# Altium integrated library Analog Devices Data Converters Analog-to-Digital Converters.IntLib: 2400 symbols (part 320 of 338)
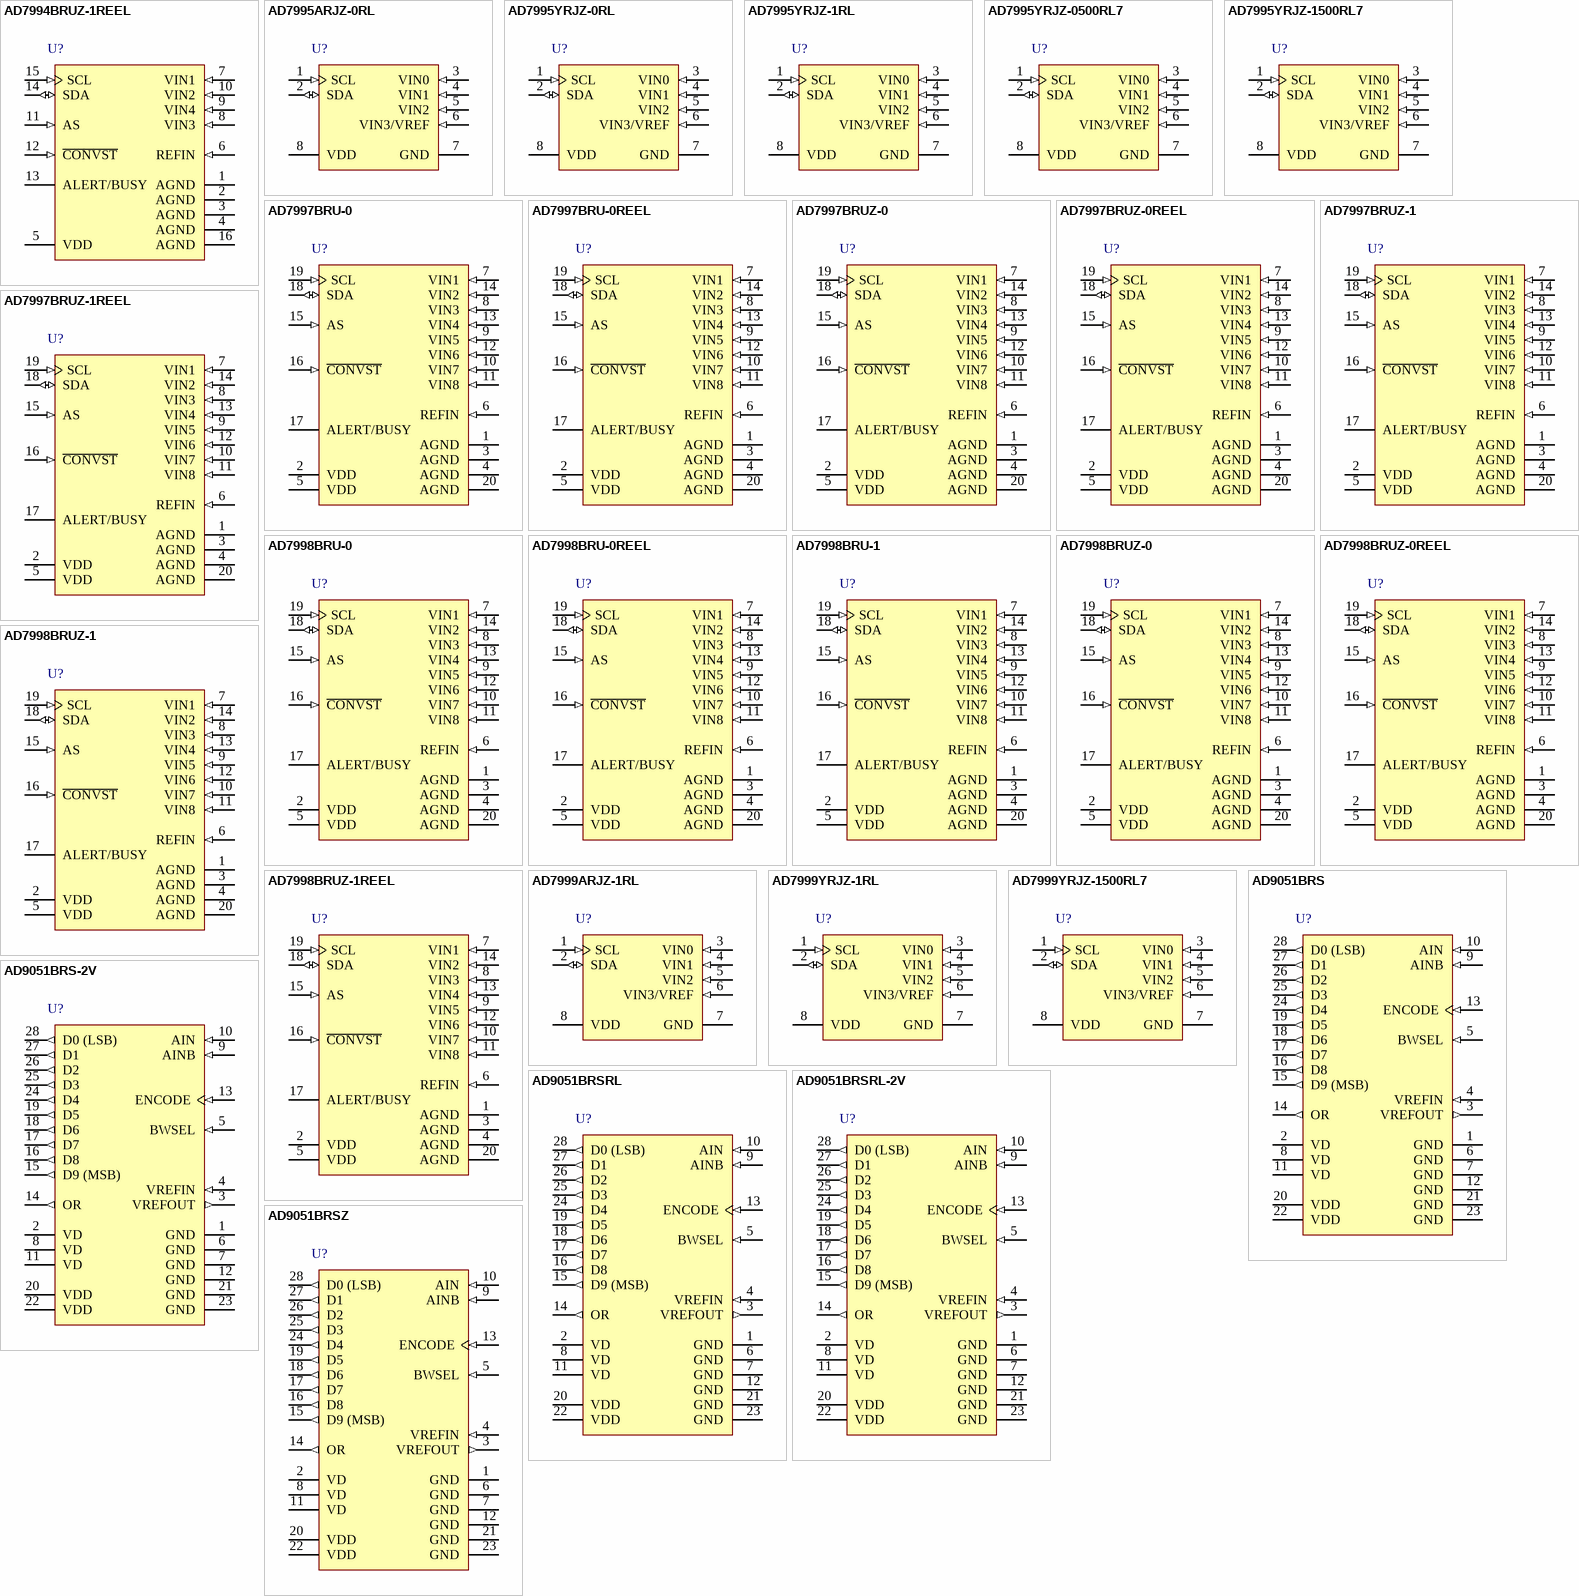
[diagram p429: symbols AD7994BRUZ-1REEL to AD9051BRSZ]

## AD9051BRSRL-2V
designator U?
Single 10-Bit Analog-to-Digital Converter with Parallel Interface, 60MSPS, -40 to +85 degC, RS-28, Reel; Part Number: AD9051; Manufacturer: Analog Devices; Resolution (Bits): 10; Channels: 1; Throughput Rate (SPS): 60M; Interface: Par; DatasheetVersion: Rev.C; PackageVersion: 060106-A; PackageReference: RS-28; PackageDescription: 28-Lead Shrink Small Outline Package [SSOP]; RoHS: N; Packing: Reel; Mounting Technology: Surface Mount; Code_JEDEC: MO-150-AH; ComponentLink1Description: Manufacturer URL; ComponentLink1URL: http://www.analog.com/en/index.html; ComponentLink2Description: Datasheet; ComponentLink2URL: http://www.analog.com/static/imported-files/data_sheets/AD9051.pdf; ComponentLink3Description: Package Specification; ComponentLink3URL: http://www.analog.com/static/imported-files/packages/32122249223724RS_28.pdf; ComponentLink4Description: Product URL; ComponentLink4URL: http://www.analog.com/en/analog-to-digital-converters/ad-converters/ad9051/products/product.html
footprint RS-28_N (SOP, 28-Leads, Body 10.2x5.3mm, Pitch 0.65mm, IPC Medium Density)
footprint RS-28_L (SOP, 28-Leads, Body 10.2x5.3mm, Pitch 0.65mm, IPC High Density)
footprint RS-28_M (SOP, 28-Leads, Body 10.2x5.3mm, Pitch 0.65mm, IPC Low Density)
pins: 1 GND (power) "Ground", 2 VD (power) "Analog 5 V Power Supply", 3 VREFOUT (out) "Internal Bandgap Voltage Reference (Nominally 2.5 V)", 4 VREFIN (in) "Input to Reference Amplifier. Voltage reference for ADC is connected here.", 5 BWSEL (in) "Bandwidth Select. NC = 130 MHz nominal. +VD = 50 MHz nominal.", 6 GND (power) "Ground", 7 GND (power) "Ground", 8 VD (power) "Analog 5 V Power Supply", 9 AINB (in) "Complementary Analog Input Pin (Analog Input Bar)", 10 AIN (in) "Analog Input Pin", 11 VD (power) "Analog 5 V Power Supply", 12 GND (power) "Ground", 13 ENCODE (in) "Encode Clock Input to ADC. Internal T/H is placed in hold mode (ADC is encoding) on rising edge of encode signal.", 14 OR (out) "Out of Range Signal. Logic 0 when analog input is in nominal range. Logic 1 when analog input is out of nominal range", 15 D9 (MSB) (out) "Most Significant Bit of ADC Output", 16 D8 (out) "Digital Output Bits of ADC", 17 D7 (out) "Digital Output Bits of ADC", 18 D6 (out) "Digital Output Bits of ADC", 19 D5 (out) "Digital Output Bits of ADC", 20 VDD (power) "Digital Output Power Supply (Only Used by Digital Outputs)", 21 GND (power) "Ground", 22 VDD (power) "Digital Output Power Supply (Only Used by Digital Outputs)", 23 GND (power) "Ground", 24 D4 (out) "Digital Output Bits of ADC", 25 D3 (out) "Digital Output Bits of ADC", 26 D2 (out) "Digital Output Bits of ADC", 27 D1 (out) "Digital Output Bits of ADC", 28 D0 (LSB) (out) "Least Significant Bit of ADC Output"

## AD9051BRSZ
designator U?
Single 10-Bit Analog-to-Digital Converter with Parallel Interface, 60MSPS, -40 to +85 degC, RS-28, Pb-Free, Tube; Part Number: AD9051; Manufacturer: Analog Devices; Resolution (Bits): 10; Channels: 1; Throughput Rate (SPS): 60M; Interface: Par; DatasheetVersion: Rev.C; PackageVersion: 060106-A; PackageReference: RS-28; PackageDescription: 28-Lead Shrink Small Outline Package [SSOP]; RoHS: Y; Packing: Tube; Mounting Technology: Surface Mount; Code_JEDEC: MO-150-AH; ComponentLink1Description: Manufacturer URL; ComponentLink1URL: http://www.analog.com/en/index.html; ComponentLink2Description: Datasheet; ComponentLink2URL: http://www.analog.com/static/imported-files/data_sheets/AD9051.pdf; ComponentLink3Description: Package Specification; ComponentLink3URL: http://www.analog.com/static/imported-files/packages/32122249223724RS_28.pdf; ComponentLink4Description: Product URL; ComponentLink4URL: http://www.analog.com/en/analog-to-digital-converters/ad-converters/ad9051/products/product.html
footprint RS-28_N (SOP, 28-Leads, Body 10.2x5.3mm, Pitch 0.65mm, IPC Medium Density)
footprint RS-28_L (SOP, 28-Leads, Body 10.2x5.3mm, Pitch 0.65mm, IPC High Density)
footprint RS-28_M (SOP, 28-Leads, Body 10.2x5.3mm, Pitch 0.65mm, IPC Low Density)
pins: 1 GND (power) "Ground", 2 VD (power) "Analog 5 V Power Supply", 3 VREFOUT (out) "Internal Bandgap Voltage Reference (Nominally 2.5 V)", 4 VREFIN (in) "Input to Reference Amplifier. Voltage reference for ADC is connected here.", 5 BWSEL (in) "Bandwidth Select. NC = 130 MHz nominal. +VD = 50 MHz nominal.", 6 GND (power) "Ground", 7 GND (power) "Ground", 8 VD (power) "Analog 5 V Power Supply", 9 AINB (in) "Complementary Analog Input Pin (Analog Input Bar)", 10 AIN (in) "Analog Input Pin", 11 VD (power) "Analog 5 V Power Supply", 12 GND (power) "Ground", 13 ENCODE (in) "Encode Clock Input to ADC. Internal T/H is placed in hold mode (ADC is encoding) on rising edge of encode signal.", 14 OR (out) "Out of Range Signal. Logic 0 when analog input is in nominal range. Logic 1 when analog input is out of nominal range", 15 D9 (MSB) (out) "Most Significant Bit of ADC Output", 16 D8 (out) "Digital Output Bits of ADC", 17 D7 (out) "Digital Output Bits of ADC", 18 D6 (out) "Digital Output Bits of ADC", 19 D5 (out) "Digital Output Bits of ADC", 20 VDD (power) "Digital Output Power Supply (Only Used by Digital Outputs)", 21 GND (power) "Ground", 22 VDD (power) "Digital Output Power Supply (Only Used by Digital Outputs)", 23 GND (power) "Ground", 24 D4 (out) "Digital Output Bits of ADC", 25 D3 (out) "Digital Output Bits of ADC", 26 D2 (out) "Digital Output Bits of ADC", 27 D1 (out) "Digital Output Bits of ADC", 28 D0 (LSB) (out) "Least Significant Bit of ADC Output"

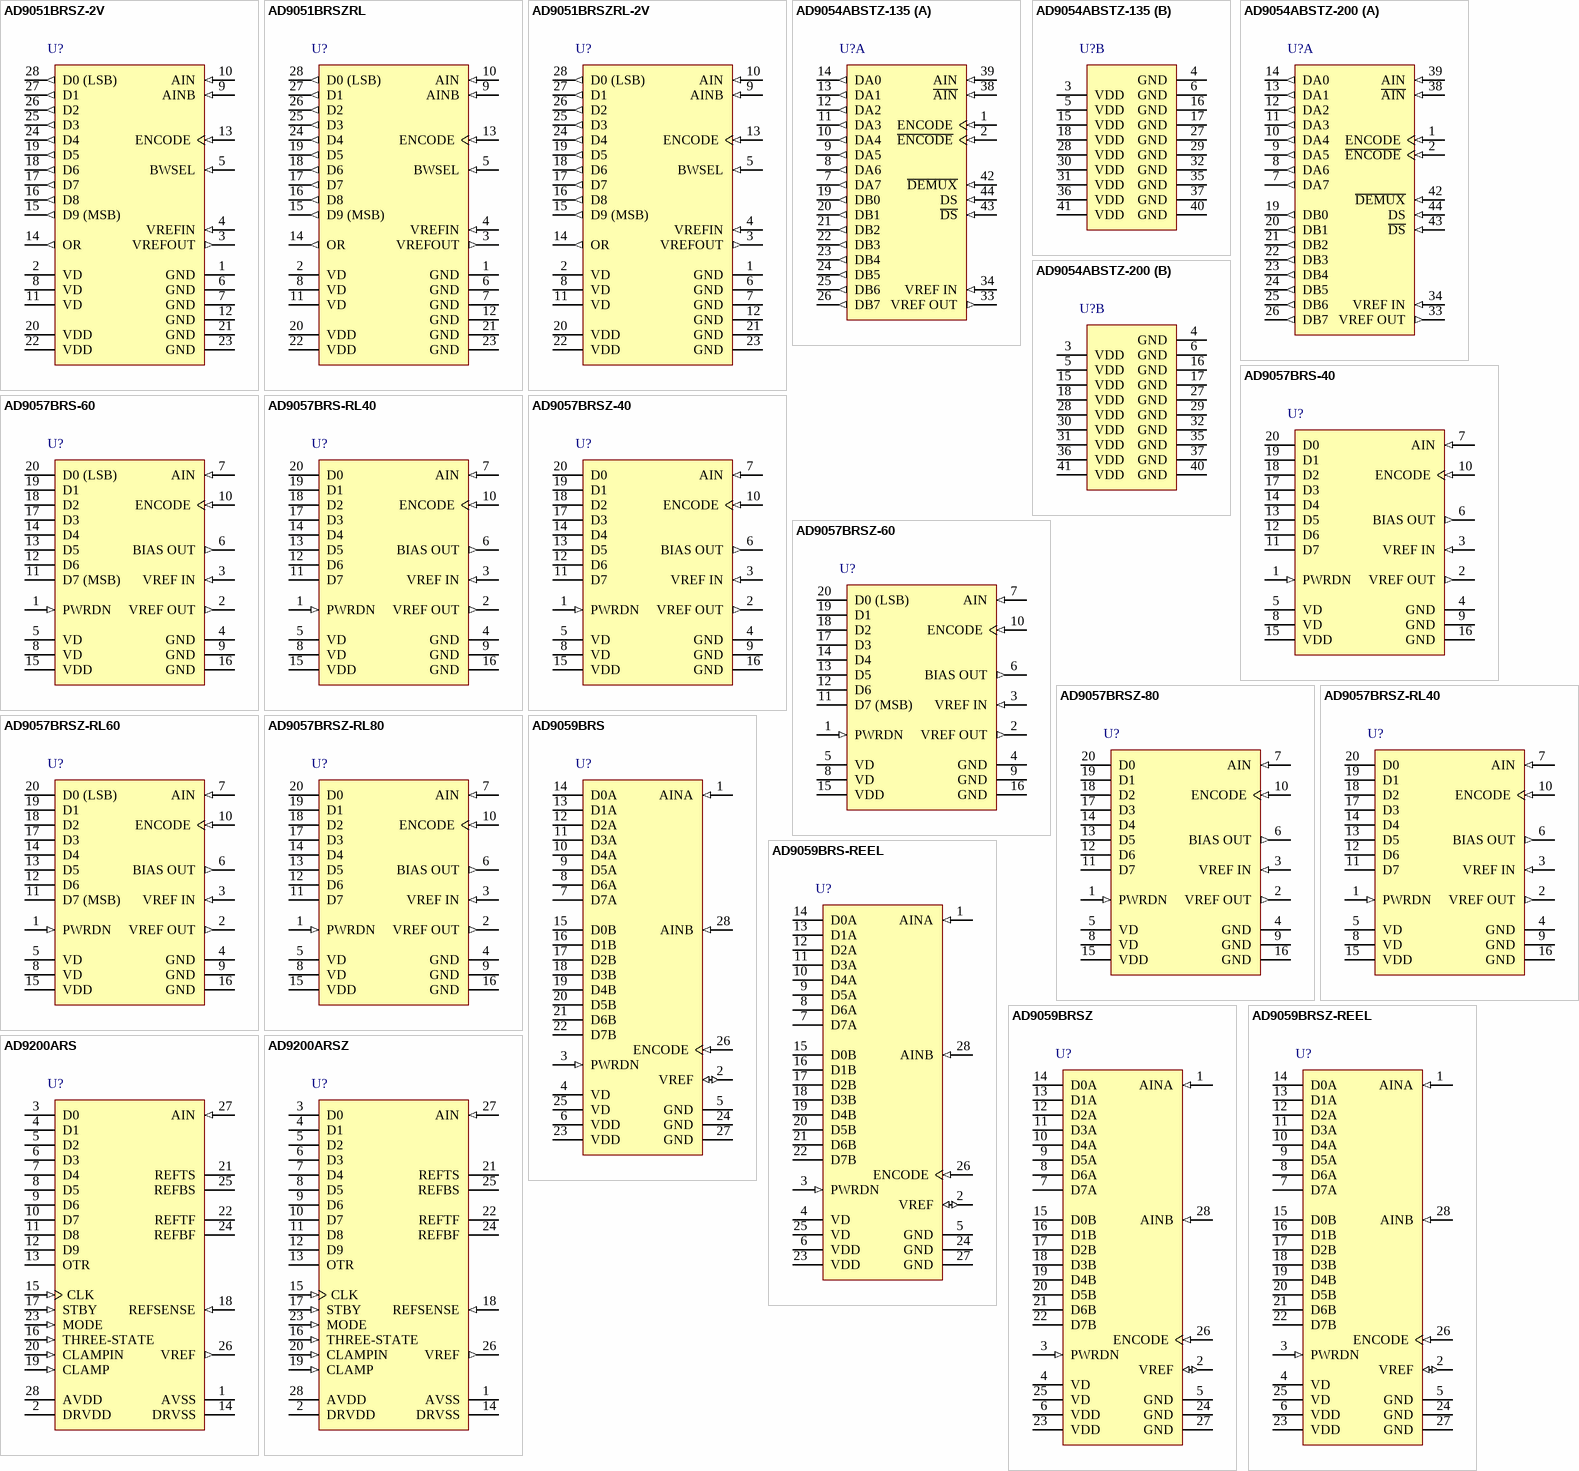
[diagram p96: symbols AD9051BRSZ-2V to AD9200ARSZ]

## AD9051BRSZ-2V
designator U?
Single 10-Bit Analog-to-Digital Converter with Parallel Interface, 60MSPS, -40 to +85 degC, RS-28, Pb-Free, Tube; Part Number: AD9051; Manufacturer: Analog Devices; Resolution (Bits): 10; Channels: 1; Throughput Rate (SPS): 60M; Interface: Par; DatasheetVersion: Rev.C; PackageVersion: 060106-A; PackageReference: RS-28; PackageDescription: 28-Lead Shrink Small Outline Package [SSOP]; RoHS: Y; Packing: Tube; Mounting Technology: Surface Mount; Code_JEDEC: MO-150-AH; ComponentLink1Description: Manufacturer URL; ComponentLink1URL: http://www.analog.com/en/index.html; ComponentLink2Description: Datasheet; ComponentLink2URL: http://www.analog.com/static/imported-files/data_sheets/AD9051.pdf; ComponentLink3Description: Package Specification; ComponentLink3URL: http://www.analog.com/static/imported-files/packages/32122249223724RS_28.pdf; ComponentLink4Description: Product URL; ComponentLink4URL: http://www.analog.com/en/analog-to-digital-converters/ad-converters/ad9051/products/product.html
footprint RS-28_N (SOP, 28-Leads, Body 10.2x5.3mm, Pitch 0.65mm, IPC Medium Density)
footprint RS-28_L (SOP, 28-Leads, Body 10.2x5.3mm, Pitch 0.65mm, IPC High Density)
footprint RS-28_M (SOP, 28-Leads, Body 10.2x5.3mm, Pitch 0.65mm, IPC Low Density)
pins: 1 GND (power) "Ground", 2 VD (power) "Analog 5 V Power Supply", 3 VREFOUT (out) "Internal Bandgap Voltage Reference (Nominally 2.5 V)", 4 VREFIN (in) "Input to Reference Amplifier. Voltage reference for ADC is connected here.", 5 BWSEL (in) "Bandwidth Select. NC = 130 MHz nominal. +VD = 50 MHz nominal.", 6 GND (power) "Ground", 7 GND (power) "Ground", 8 VD (power) "Analog 5 V Power Supply", 9 AINB (in) "Complementary Analog Input Pin (Analog Input Bar)", 10 AIN (in) "Analog Input Pin", 11 VD (power) "Analog 5 V Power Supply", 12 GND (power) "Ground", 13 ENCODE (in) "Encode Clock Input to ADC. Internal T/H is placed in hold mode (ADC is encoding) on rising edge of encode signal.", 14 OR (out) "Out of Range Signal. Logic 0 when analog input is in nominal range. Logic 1 when analog input is out of nominal range", 15 D9 (MSB) (out) "Most Significant Bit of ADC Output", 16 D8 (out) "Digital Output Bits of ADC", 17 D7 (out) "Digital Output Bits of ADC", 18 D6 (out) "Digital Output Bits of ADC", 19 D5 (out) "Digital Output Bits of ADC", 20 VDD (power) "Digital Output Power Supply (Only Used by Digital Outputs)", 21 GND (power) "Ground", 22 VDD (power) "Digital Output Power Supply (Only Used by Digital Outputs)", 23 GND (power) "Ground", 24 D4 (out) "Digital Output Bits of ADC", 25 D3 (out) "Digital Output Bits of ADC", 26 D2 (out) "Digital Output Bits of ADC", 27 D1 (out) "Digital Output Bits of ADC", 28 D0 (LSB) (out) "Least Significant Bit of ADC Output"

## AD9051BRSZRL
designator U?
Single 10-Bit Analog-to-Digital Converter with Parallel Interface, 60MSPS, -40 to +85 degC, RS-28, Pb-Free, Reel; Part Number: AD9051; Manufacturer: Analog Devices; Resolution (Bits): 10; Channels: 1; Throughput Rate (SPS): 60M; Interface: Par; DatasheetVersion: Rev.C; PackageVersion: 060106-A; PackageReference: RS-28; PackageDescription: 28-Lead Shrink Small Outline Package [SSOP]; RoHS: Y; Packing: Reel; Mounting Technology: Surface Mount; Code_JEDEC: MO-150-AH; ComponentLink1Description: Manufacturer URL; ComponentLink1URL: http://www.analog.com/en/index.html; ComponentLink2Description: Datasheet; ComponentLink2URL: http://www.analog.com/static/imported-files/data_sheets/AD9051.pdf; ComponentLink3Description: Package Specification; ComponentLink3URL: http://www.analog.com/static/imported-files/packages/32122249223724RS_28.pdf; ComponentLink4Description: Product URL; ComponentLink4URL: http://www.analog.com/en/analog-to-digital-converters/ad-converters/ad9051/products/product.html
footprint RS-28_N (SOP, 28-Leads, Body 10.2x5.3mm, Pitch 0.65mm, IPC Medium Density)
footprint RS-28_L (SOP, 28-Leads, Body 10.2x5.3mm, Pitch 0.65mm, IPC High Density)
footprint RS-28_M (SOP, 28-Leads, Body 10.2x5.3mm, Pitch 0.65mm, IPC Low Density)
pins: 1 GND (power) "Ground", 2 VD (power) "Analog 5 V Power Supply", 3 VREFOUT (out) "Internal Bandgap Voltage Reference (Nominally 2.5 V)", 4 VREFIN (in) "Input to Reference Amplifier. Voltage reference for ADC is connected here.", 5 BWSEL (in) "Bandwidth Select. NC = 130 MHz nominal. +VD = 50 MHz nominal.", 6 GND (power) "Ground", 7 GND (power) "Ground", 8 VD (power) "Analog 5 V Power Supply", 9 AINB (in) "Complementary Analog Input Pin (Analog Input Bar)", 10 AIN (in) "Analog Input Pin", 11 VD (power) "Analog 5 V Power Supply", 12 GND (power) "Ground", 13 ENCODE (in) "Encode Clock Input to ADC. Internal T/H is placed in hold mode (ADC is encoding) on rising edge of encode signal.", 14 OR (out) "Out of Range Signal. Logic 0 when analog input is in nominal range. Logic 1 when analog input is out of nominal range", 15 D9 (MSB) (out) "Most Significant Bit of ADC Output", 16 D8 (out) "Digital Output Bits of ADC", 17 D7 (out) "Digital Output Bits of ADC", 18 D6 (out) "Digital Output Bits of ADC", 19 D5 (out) "Digital Output Bits of ADC", 20 VDD (power) "Digital Output Power Supply (Only Used by Digital Outputs)", 21 GND (power) "Ground", 22 VDD (power) "Digital Output Power Supply (Only Used by Digital Outputs)", 23 GND (power) "Ground", 24 D4 (out) "Digital Output Bits of ADC", 25 D3 (out) "Digital Output Bits of ADC", 26 D2 (out) "Digital Output Bits of ADC", 27 D1 (out) "Digital Output Bits of ADC", 28 D0 (LSB) (out) "Least Significant Bit of ADC Output"

## AD9051BRSZRL-2V
designator U?
Single 10-Bit Analog-to-Digital Converter with Parallel Interface, 60MSPS, -40 to +85 degC, RS-28, Pb-Free, Reel; Part Number: AD9051; Manufacturer: Analog Devices; Resolution (Bits): 10; Channels: 1; Throughput Rate (SPS): 60M; Interface: Par; DatasheetVersion: Rev.C; PackageVersion: 060106-A; PackageReference: RS-28; PackageDescription: 28-Lead Shrink Small Outline Package [SSOP]; RoHS: Y; Packing: Reel; Mounting Technology: Surface Mount; Code_JEDEC: MO-150-AH; ComponentLink1Description: Manufacturer URL; ComponentLink1URL: http://www.analog.com/en/index.html; ComponentLink2Description: Datasheet; ComponentLink2URL: http://www.analog.com/static/imported-files/data_sheets/AD9051.pdf; ComponentLink3Description: Package Specification; ComponentLink3URL: http://www.analog.com/static/imported-files/packages/32122249223724RS_28.pdf; ComponentLink4Description: Product URL; ComponentLink4URL: http://www.analog.com/en/analog-to-digital-converters/ad-converters/ad9051/products/product.html
footprint RS-28_N (SOP, 28-Leads, Body 10.2x5.3mm, Pitch 0.65mm, IPC Medium Density)
footprint RS-28_L (SOP, 28-Leads, Body 10.2x5.3mm, Pitch 0.65mm, IPC High Density)
footprint RS-28_M (SOP, 28-Leads, Body 10.2x5.3mm, Pitch 0.65mm, IPC Low Density)
pins: 1 GND (power) "Ground", 2 VD (power) "Analog 5 V Power Supply", 3 VREFOUT (out) "Internal Bandgap Voltage Reference (Nominally 2.5 V)", 4 VREFIN (in) "Input to Reference Amplifier. Voltage reference for ADC is connected here.", 5 BWSEL (in) "Bandwidth Select. NC = 130 MHz nominal. +VD = 50 MHz nominal.", 6 GND (power) "Ground", 7 GND (power) "Ground", 8 VD (power) "Analog 5 V Power Supply", 9 AINB (in) "Complementary Analog Input Pin (Analog Input Bar)", 10 AIN (in) "Analog Input Pin", 11 VD (power) "Analog 5 V Power Supply", 12 GND (power) "Ground", 13 ENCODE (in) "Encode Clock Input to ADC. Internal T/H is placed in hold mode (ADC is encoding) on rising edge of encode signal.", 14 OR (out) "Out of Range Signal. Logic 0 when analog input is in nominal range. Logic 1 when analog input is out of nominal range", 15 D9 (MSB) (out) "Most Significant Bit of ADC Output", 16 D8 (out) "Digital Output Bits of ADC", 17 D7 (out) "Digital Output Bits of ADC", 18 D6 (out) "Digital Output Bits of ADC", 19 D5 (out) "Digital Output Bits of ADC", 20 VDD (power) "Digital Output Power Supply (Only Used by Digital Outputs)", 21 GND (power) "Ground", 22 VDD (power) "Digital Output Power Supply (Only Used by Digital Outputs)", 23 GND (power) "Ground", 24 D4 (out) "Digital Output Bits of ADC", 25 D3 (out) "Digital Output Bits of ADC", 26 D2 (out) "Digital Output Bits of ADC", 27 D1 (out) "Digital Output Bits of ADC", 28 D0 (LSB) (out) "Least Significant Bit of ADC Output"